# Altium footprint library SOP65P400X130-8N.PcbLib: 1 footprints
Each footprint in its own frame and in the unit in brackets; x right, y up, seen from the top. Pads: shape width x height; smd on the part's side, far side on the other; paste and mask are expansions set on the pad; w line width, h text height; cw(c..) or ccw(c..) is an arc to the next point about the centre after c.
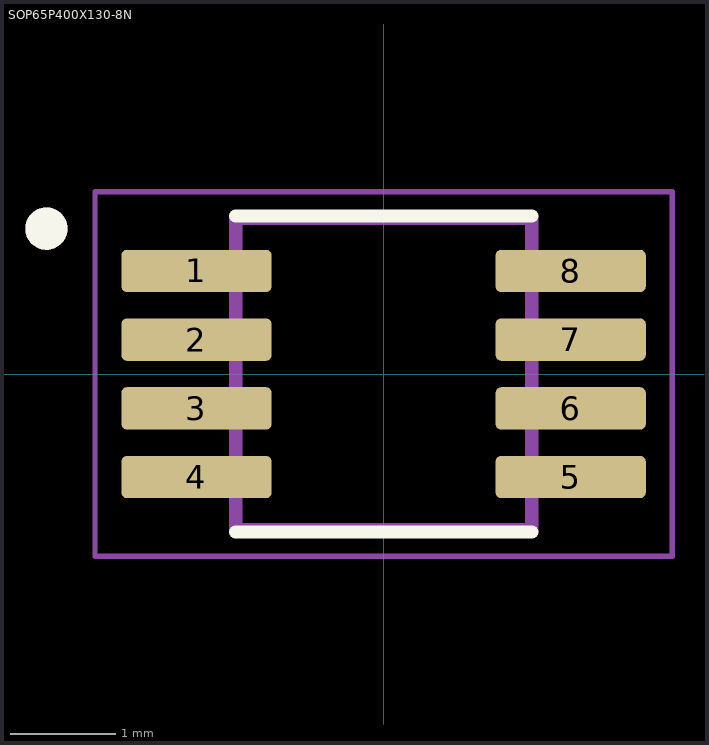
[diagram p0: the footprint, top view; thin cyan lines are the x and y axes]

## SOP65P400X130-8N [mm]
pads (8):
  rrect25% 1.42x0.4 smd: 1(-1.77,0.975) 2(-1.77,0.325) 3(-1.77,-0.325) 4(-1.77,-0.975) 5(1.77,-0.975) 6(1.77,-0.325) 7(1.77,0.325) 8(1.77,0.975)
Top Overlay:
  circle w0.2: c-3.19,1.375 r0.1
  lines w0.127: -1.4,-1.495 1.4,-1.495 ; -1.4,1.495 1.4,1.495
Mechanical 13:
  circle w0.2: c-3.19,1.375 r0.1
  lines w0.127: -1.4,-1.475 1.4,-1.475 1.4,1.475 -1.4,1.475 -1.4,-1.475
Mechanical 15:
  lines w0.05: -2.73,-1.725 2.73,-1.725 2.73,1.725 -2.73,1.725 -2.73,-1.725